# Altium footprint library PCB - ENCODER - BOURNS EAW0J-C24-AE0128L.PCBLIB: 1 footprints
Each footprint in its own frame and in the unit in brackets; x right, y up, seen from the top. Pads: shape width x height; smd on the part's side, far side on the other; paste and mask are expansions set on the pad; w line width, h text height; cw(c..) or ccw(c..) is an arc to the next point about the centre after c.
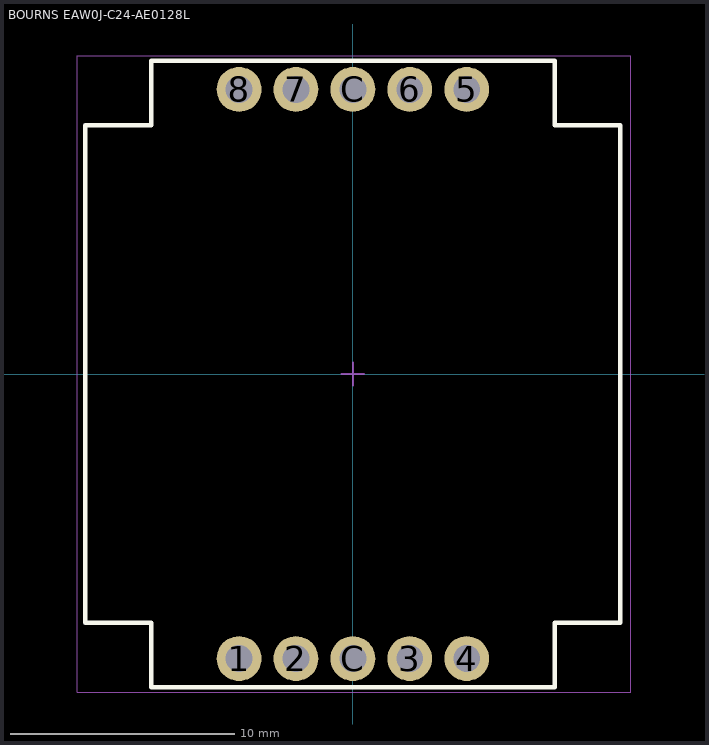
[diagram p0: the footprint, top view; thin cyan lines are the x and y axes]

## BOURNS EAW0J-C24-AE0128L [mm] "BOURNS EAW0J-C24-AExxxx Bushing Mounted: Housing A with Rear Facing Terminals, 10 pin 100mil pitch"
height 28
pads (10):
  round 2 hole 1.2: 1(-5.08,-12.7) 2(-2.54,-12.7) 3(2.54,-12.7) 4(5.08,-12.7) 5(5.08,12.7) 6(2.54,12.7) 7(-2.54,12.7) 8(-5.08,12.7) C(0,-12.7) C(0,12.7)
Top Overlay:
  lines w0.2: -11.94,-11.1 -9,-11.1 -9,-13.975 9,-13.975 9,-11.1 11.94,-11.1 11.94,11.1 9,11.1 9,13.975 -9,13.975 -9,11.1 -11.94,11.1 -11.94,-11.1
Mechanical 13:
  lines w0.1: -11.94,-11.1 -9,-11.1 -9,-13.975 9,-13.975 9,-11.1 11.94,-11.1 11.94,11.1 9,11.1 9,13.975 -9,13.975 -9,11.1 -11.94,11.1 -11.94,-11.1
Mechanical 15:
  lines w0.05: -12.3,-14.2 -12.3,14.2 12.4,14.2 12.4,-14.2 -12.3,-14.2
  lines w0.1: -0.5,0 0.5,0 ; 0,-0.5 0,0.5
3D body "Bourns - EAW0J-C24-AE128L.step": height 27.56, standoff -3.67, extent -11.938,-13.97 11.938,13.97